# EAGLE library part VSK-3S (library carrilib)
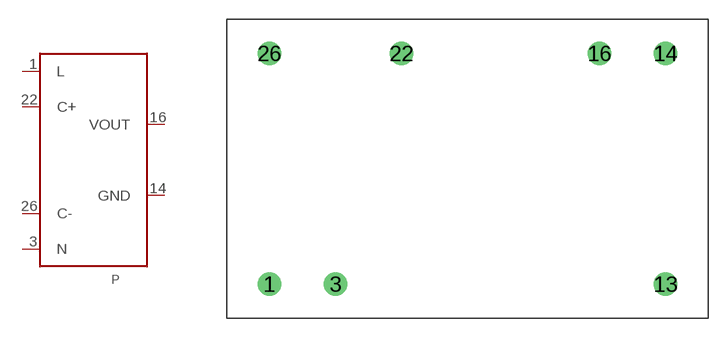
[diagram p34: symbol with the pads of VSK-S3; footprint VSK-S3]

Designator prefix P

## VSK-3S  [VSK-S3]
1  L
3  N
14  GND
16  VOUT
22  C+
26  C-

## Footprint VSK-S3 (pad centres in mm)
drill 1.194: 1 -15.24,-8.89; 3 -10.16,-8.89; 13 15.24,-8.89; 14 15.24,8.89; 16 10.16,8.89; 22 -5.08,8.89; 26 -15.24,8.89